# Altium integrated library Inductor - Power.IntLib: 264 symbols (part 2 of 5)
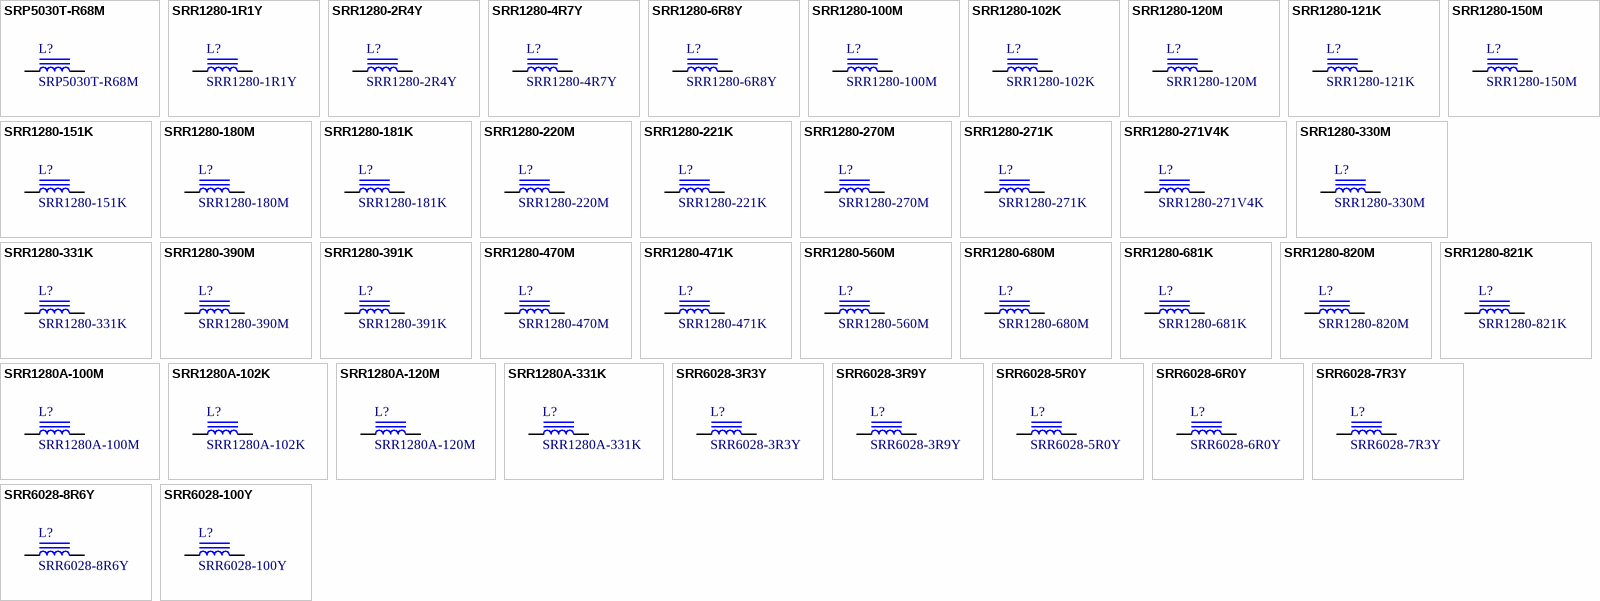
[diagram p7: symbols SRP5030T-R68M to SRR6028-100Y]

## SRR1280-391K
designator L?
FIXED IND 390UH 1A 680 MOHM SMD; Manufacturer: Bourns Inc.; Type: Wirewound; Material - Core: Ferrite; Tolerance: 10%; Current - Saturation: 1.4A; Shielding: Shielded; DC Resistance (DCR): 680 mOhm Max; Q @ Freq: 20 @ 796kHz; Frequency - Self Resonant: 2.7MHz; Value: 390uH; Part Number: SRR1280-391K; PartId: 16192; Supplier 1: Digi-Key; Supplier Part Number 1: SRR1280-391KLCT-ND; ComponentLink1Description: Datasheet; ComponentLink1URL: http://www.bourns.com/docs/Product-Datasheets/SRR1280.pdf; ComponentLink2Description: Digi-Key Listing; ComponentLink2URL: https://www.digikey.com/product-detail/en/bourns-inc/SRR1280-391K/SRR1280-391KLCT-ND/2127443; Price: 0.99; Device Package: Nonstandard; Series: SRR1280; Inductance: 390uH; Current Rating: 1A; Operating Temperature: -40C ~ 125C
footprint BOURNS SRR1280
pins: 1, 2

## SRR1280-470M
designator L?
FIXED IND 47UH 2.9A 80 MOHM SMD; Manufacturer: Bourns Inc.; Type: Wirewound; Material - Core: Ferrite; Tolerance: 20%; Current - Saturation: 2.8A; Shielding: Shielded; DC Resistance (DCR): 80 mOhm Max; Q @ Freq: 24 @ 2.52MHz; Frequency - Self Resonant: 7.5MHz; Value: 47uH; Part Number: SRR1280-470M; PartId: 15711; Supplier 1: Digi-Key; Supplier Part Number 1: SRR1280-470MTR-ND; ComponentLink1Description: Datasheet; ComponentLink1URL: http://www.bourns.com/docs/Product-Datasheets/SRR1280.pdf; ComponentLink2Description: Digi-Key Listing; ComponentLink2URL: https://www.digikey.com/product-detail/en/bourns-inc/SRR1280-470M/SRR1280-470MTR-ND/1970000; Price: 0.7737; Device Package: Nonstandard; Series: SRR1280; Inductance: 47uH; Current Rating: 2.9A; Operating Temperature: -40C ~ 125C
footprint BOURNS SRR1280
pins: 1, 2

## SRR1280-471K
designator L?
FIXED IND 470UH 900MA 880 MOHM; Manufacturer: Bourns Inc.; Type: Wirewound; Material - Core: Ferrite; Tolerance: 10%; Current - Saturation: 1.25A; Shielding: Shielded; DC Resistance (DCR): 880 mOhm Max; Q @ Freq: 20 @ 796kHz; Frequency - Self Resonant: 2.2MHz; Value: 470uH; Part Number: SRR1280-471K; PartId: 15720; Supplier 1: Digi-Key; Supplier Part Number 1: SRR1280-471KLTR-ND; ComponentLink1Description: Datasheet; ComponentLink1URL: http://www.bourns.com/docs/Product-Datasheets/SRR1280.pdf; ComponentLink2Description: Digi-Key Listing; ComponentLink2URL: https://www.digikey.com/product-detail/en/bourns-inc/SRR1280-471K/SRR1280-471KLTR-ND/1970012; Price: 0.7737; Device Package: Nonstandard; Series: SRR1280; Inductance: 470uH; Current Rating: 900mA; Operating Temperature: -40C ~ 125C
footprint BOURNS SRR1280
pins: 1, 2

## SRR1280-560M
designator L?
FIXED IND 56UH 2.6A 100 MOHM SMD; Manufacturer: Bourns Inc.; Type: Wirewound; Material - Core: Ferrite; Tolerance: 20%; Current - Saturation: 2.5A; Shielding: Shielded; DC Resistance (DCR): 100 mOhm Max; Q @ Freq: 24 @ 2.52MHz; Frequency - Self Resonant: 7MHz; Value: 56uH; Part Number: SRR1280-560M; PartId: 16189; Supplier 1: Digi-Key; Supplier Part Number 1: SRR1280-560MCT-ND; ComponentLink1Description: Datasheet; ComponentLink1URL: http://www.bourns.com/docs/Product-Datasheets/SRR1280.pdf; ComponentLink2Description: Digi-Key Listing; ComponentLink2URL: https://www.digikey.com/product-detail/en/bourns-inc/SRR1280-560M/SRR1280-560MCT-ND/2127447; Price: 0.99; Device Package: Nonstandard; Series: SRR1280; Inductance: 56uH; Current Rating: 2.6A; Operating Temperature: -40C ~ 125C
footprint BOURNS SRR1280
pins: 1, 2

## SRR1280-680M
designator L?
FIXED IND 68UH 2.4A 120 MOHM SMD; Manufacturer: Bourns Inc.; Type: Wirewound; Material - Core: Ferrite; Tolerance: 20%; Current - Saturation: 2.3A; Shielding: Shielded; DC Resistance (DCR): 120 mOhm Max; Q @ Freq: 20 @ 2.52MHz; Frequency - Self Resonant: 6.5MHz; Value: 68uH; Part Number: SRR1280-680M; PartId: 15716; Supplier 1: Digi-Key; Supplier Part Number 1: SRR1280-680MTR-ND; ComponentLink1Description: Datasheet; ComponentLink1URL: http://www.bourns.com/docs/Product-Datasheets/SRR1280.pdf; ComponentLink2Description: Digi-Key Listing; ComponentLink2URL: https://www.digikey.com/product-detail/en/bourns-inc/SRR1280-680M/SRR1280-680MTR-ND/1970002; Price: 0.7737; Device Package: Nonstandard; Series: SRR1280; Inductance: 68uH; Current Rating: 2.4A; Operating Temperature: -40C ~ 125C
footprint BOURNS SRR1280
pins: 1, 2

## SRR1280-681K
designator L?
FIXED IND 680UH 750MA 1.3 OHM; Manufacturer: Bourns Inc.; Type: Wirewound; Material - Core: Ferrite; Tolerance: 10%; Current - Saturation: 970mA; Shielding: Shielded; DC Resistance (DCR): 1.3 Ohm Max; Q @ Freq: 26 @ 796kHz; Frequency - Self Resonant: 1.7MHz; Value: 680uH; Part Number: SRR1280-681K; PartId: 15724; Supplier 1: Digi-Key; Supplier Part Number 1: SRR1280-681KLTR-ND; ComponentLink1Description: Datasheet; ComponentLink1URL: http://www.bourns.com/docs/Product-Datasheets/SRR1280.pdf; ComponentLink2Description: Digi-Key Listing; ComponentLink2URL: https://www.digikey.com/product-detail/en/bourns-inc/SRR1280-681K/SRR1280-681KLTR-ND/1970014; Price: 0.7737; Device Package: Nonstandard; Series: SRR1280; Inductance: 680uH; Current Rating: 750mA; Operating Temperature: -40C ~ 125C
footprint BOURNS SRR1280
pins: 1, 2

## SRR1280-820M
designator L?
FIXED IND 82UH 2.3A 130 MOHM SMD; Manufacturer: Bourns Inc.; Type: Wirewound; Material - Core: Ferrite; Tolerance: 20%; Current - Saturation: 2.2A; Shielding: Shielded; DC Resistance (DCR): 130 mOhm Max; Q @ Freq: 20 @ 796kHz; Frequency - Self Resonant: 5MHz; Value: 82uH; Part Number: SRR1280-820M; PartId: 15718; Supplier 1: Digi-Key; Supplier Part Number 1: SRR1280-820MTR-ND; ComponentLink1Description: Datasheet; ComponentLink1URL: http://www.bourns.com/docs/Product-Datasheets/SRR1280.pdf; ComponentLink2Description: Digi-Key Listing; ComponentLink2URL: https://www.digikey.com/product-detail/en/bourns-inc/SRR1280-820M/SRR1280-820MTR-ND/1970003; Price: 0.7737; Device Package: Nonstandard; Series: SRR1280; Inductance: 82uH; Current Rating: 2.3A; Operating Temperature: -40C ~ 125C
footprint BOURNS SRR1280
pins: 1, 2

## SRR1280-821K
designator L?
FIXED IND 820UH 700MA 1.5 OHM; Manufacturer: Bourns Inc.; Type: Wirewound; Material - Core: Ferrite; Tolerance: 10%; Current - Saturation: 940mA; Shielding: Shielded; DC Resistance (DCR): 1.5 Ohm Max; Q @ Freq: 20 @ 796kHz; Frequency - Self Resonant: 1.4MHz; Value: 820uH; Part Number: SRR1280-821K; PartId: 15723; Supplier 1: Digi-Key; Supplier Part Number 1: SRR1280-821KLTR-ND; ComponentLink1Description: Datasheet; ComponentLink1URL: http://www.bourns.com/docs/Product-Datasheets/SRR1280.pdf; ComponentLink2Description: Digi-Key Listing; ComponentLink2URL: https://www.digikey.com/product-detail/en/bourns-inc/SRR1280-821K/SRR1280-821KLTR-ND/1970015; Price: 0.7737; Device Package: Nonstandard; Series: SRR1280; Inductance: 820uH; Current Rating: 700mA; Operating Temperature: -40C ~ 125C
footprint BOURNS SRR1280
pins: 1, 2

## SRR1280A-100M
designator L?
FIXED IND 10UH 6A 19.5 MOHM SMD; Manufacturer: Bourns Inc.; Material - Core: Ferrite; Tolerance: 20%; Current - Saturation: 6.3A; Shielding: Shielded; DC Resistance (DCR): 19.5 mOhm Max; Q @ Freq: 24 @ 2.52MHz; Frequency - Self Resonant: 17MHz; Value: 10uH; Part Number: SRR1280A-100M; PartId: 15726; Supplier 1: Digi-Key; Supplier Part Number 1: SRR1280A-100MTR-ND; ComponentLink1Description: Datasheet; ComponentLink1URL: http://www.bourns.com/docs/Product-Datasheets/SRR1280A.pdf; ComponentLink2Description: Digi-Key Listing; ComponentLink2URL: https://www.digikey.com/product-detail/en/bourns-inc/SRR1280A-100M/SRR1280A-100MTR-ND/4340238; Price: 0.8985; Device Package: Nonstandard; Series: SRR1280A; Inductance: 10uH; Current Rating: 6A; Operating Temperature: -40C ~ 125C
footprint BOURNS SRR1280
pins: 1, 2

## SRR1280A-102K
designator L?
FIXED IND 1MH 680MA 1.7 OHM SMD; Manufacturer: Bourns Inc.; Material - Core: Ferrite; Tolerance: 10%; Current - Saturation: 800mA; Shielding: Shielded; DC Resistance (DCR): 1.7 Ohm Max; Q @ Freq: 40 @ 252kHz; Frequency - Self Resonant: 1.3MHz; Value: 1mH; Part Number: SRR1280A-102K; PartId: 15730; Supplier 1: Digi-Key; Supplier Part Number 1: SRR1280A-102KTR-ND; ComponentLink1Description: Datasheet; ComponentLink1URL: http://www.bourns.com/docs/Product-Datasheets/SRR1280A.pdf; ComponentLink2Description: Digi-Key Listing; ComponentLink2URL: https://www.digikey.com/product-detail/en/bourns-inc/SRR1280A-102K/SRR1280A-102KTR-ND/4340262; Price: 0.8985; Device Package: Nonstandard; Series: SRR1280A; Inductance: 1mH; Current Rating: 680mA; Operating Temperature: -40C ~ 125C
footprint BOURNS SRR1280
pins: 1, 2

## SRR1280A-120M
designator L?
FIXED IND 12UH 5.6A 28 MOHM SMD; Manufacturer: Bourns Inc.; Material - Core: Ferrite; Tolerance: 20%; Current - Saturation: 6A; Shielding: Shielded; DC Resistance (DCR): 28 mOhm Max; Q @ Freq: 26 @ 2.52MHz; Frequency - Self Resonant: 15MHz; Value: 12uH; Part Number: SRR1280A-120M; PartId: 15731; Supplier 1: Digi-Key; Supplier Part Number 1: SRR1280A-120MTR-ND; ComponentLink1Description: Datasheet; ComponentLink1URL: http://www.bourns.com/docs/Product-Datasheets/SRR1280A.pdf; ComponentLink2Description: Digi-Key Listing; ComponentLink2URL: https://www.digikey.com/product-detail/en/bourns-inc/SRR1280A-120M/SRR1280A-120MTR-ND/4340239; Price: 0.8985; Device Package: Nonstandard; Series: SRR1280A; Inductance: 12uH; Current Rating: 5.6A; Operating Temperature: -40C ~ 125C
footprint BOURNS SRR1280
pins: 1, 2

## SRR1280A-331K
designator L?
FIXED IND 330UH 1.1A 600 MOHM; Manufacturer: Bourns Inc.; Material - Core: Ferrite; Tolerance: 10%; Current - Saturation: 1.4A; Shielding: Shielded; DC Resistance (DCR): 600 mOhm Max; Q @ Freq: 18 @ 796kHz; Frequency - Self Resonant: 2.9MHz; Value: 330uH; Part Number: SRR1280A-331K; PartId: 15732; Supplier 1: Digi-Key; Supplier Part Number 1: SRR1280A-331KTR-ND; ComponentLink1Description: Datasheet; ComponentLink1URL: http://www.bourns.com/docs/Product-Datasheets/SRR1280A.pdf; ComponentLink2Description: Digi-Key Listing; ComponentLink2URL: https://www.digikey.com/product-detail/en/bourns-inc/SRR1280A-331K/SRR1280A-331KTR-ND/4340256; Price: 0.8985; Device Package: Nonstandard; Series: SRR1280A; Inductance: 330uH; Current Rating: 1.1A; Operating Temperature: -40C ~ 125C
footprint BOURNS SRR1280
pins: 1, 2

## SRR6028-3R3Y
designator L?
FIXED IND 3.3UH 2.5A 28 MOHM SMD; Manufacturer: Bourns Inc.; Type: Wirewound; Material - Core: Ferrite; Tolerance: 30%; Current - Saturation: 2.6A; Shielding: Shielded; DC Resistance (DCR): 28 mOhm Max; Q @ Freq: 10 @ 7.96MHz; Frequency - Self Resonant: 45MHz; Value: 3.3uH; Part Number: SRR6028-3R3Y; PartId: 27929; Supplier 1: Digi-Key; Supplier Part Number 1: SRR6028-3R3YCT-ND; ComponentLink1Description: Datasheet; ComponentLink1URL: http://www.bourns.com/docs/Product-Datasheets/SRR6028.pdf; ComponentLink2Description: Digi-Key Listing; ComponentLink2URL: https://www.digikey.com/product-detail/en/bourns-inc/SRR6028-3R3Y/SRR6028-3R3YCT-ND/2127561; Price: 0.68; Device Package: Nonstandard; Series: SRR6028; Inductance: 3.3uH; Current Rating: 2.5A; Operating Temperature: -40C ~ 125C
footprint BOURNS SRR6028
pins: 1, 2

## SRR6028-3R9Y
designator L?
FIXED IND 3.9UH 2.45A 32 MOHM; Manufacturer: Bourns Inc.; Type: Wirewound; Material - Core: Ferrite; Tolerance: 30%; Current - Saturation: 2.3A; Shielding: Shielded; DC Resistance (DCR): 32 mOhm Max; Q @ Freq: 9 @ 7.96MHz; Frequency - Self Resonant: 40MHz; Value: 3.9uH; Part Number: SRR6028-3R9Y; PartId: 27927; Supplier 1: Digi-Key; Supplier Part Number 1: SRR6028-3R9YCT-ND; ComponentLink1Description: Datasheet; ComponentLink1URL: http://www.bourns.com/docs/Product-Datasheets/SRR6028.pdf; ComponentLink2Description: Digi-Key Listing; ComponentLink2URL: https://www.digikey.com/product-detail/en/bourns-inc/SRR6028-3R9Y/SRR6028-3R9YCT-ND/2127562; Price: 0.68; Device Package: Nonstandard; Series: SRR6028; Inductance: 3.9uH; Current Rating: 2.45A; Operating Temperature: -40C ~ 125C
footprint BOURNS SRR6028
pins: 1, 2

## SRR6028-5R0Y
designator L?
FIXED IND 5UH 2.4A 36 MOHM SMD; Manufacturer: Bourns Inc.; Type: Wirewound; Material - Core: Ferrite; Tolerance: 30%; Current - Saturation: 2.1A; Shielding: Shielded; DC Resistance (DCR): 36 mOhm Max; Q @ Freq: 7.5 @ 7.96MHz; Frequency - Self Resonant: 38MHz; Value: 5uH; Part Number: SRR6028-5R0Y; PartId: 27938; Supplier 1: Digi-Key; Supplier Part Number 1: SRR6028-5R0YCT-ND; ComponentLink1Description: Datasheet; ComponentLink1URL: http://www.bourns.com/docs/Product-Datasheets/SRR6028.pdf; ComponentLink2Description: Digi-Key Listing; ComponentLink2URL: https://www.digikey.com/product-detail/en/bourns-inc/SRR6028-5R0Y/SRR6028-5R0YCT-ND/2127565; Price: 0.68; Device Package: Nonstandard; Series: SRR6028; Inductance: 5uH; Current Rating: 2.4A; Operating Temperature: -40C ~ 125C
footprint BOURNS SRR6028
pins: 1, 2

## SRR6028-6R0Y
designator L?
FIXED IND 6UH 2.3A 40 MOHM SMD; Manufacturer: Bourns Inc.; Type: Wirewound; Material - Core: Ferrite; Tolerance: 30%; Current - Saturation: 2A; Shielding: Shielded; DC Resistance (DCR): 40 mOhm Max; Q @ Freq: 9 @ 7.96MHz; Frequency - Self Resonant: 35MHz; Value: 6uH; Part Number: SRR6028-6R0Y; PartId: 27934; Supplier 1: Digi-Key; Supplier Part Number 1: SRR6028-6R0YCT-ND; ComponentLink1Description: Datasheet; ComponentLink1URL: http://www.bourns.com/docs/Product-Datasheets/SRR6028.pdf; ComponentLink2Description: Digi-Key Listing; ComponentLink2URL: https://www.digikey.com/product-detail/en/bourns-inc/SRR6028-6R0Y/SRR6028-6R0YCT-ND/2127567; Price: 0.68; Device Package: Nonstandard; Series: SRR6028; Inductance: 6uH; Current Rating: 2.3A; Operating Temperature: -40C ~ 125C
footprint BOURNS SRR6028
pins: 1, 2

## SRR6028-7R3Y
designator L?
FIXED IND 7.3UH 2.2A 52 MOHM SMD; Manufacturer: Bourns Inc.; Type: Wirewound; Material - Core: Ferrite; Tolerance: 30%; Current - Saturation: 1.85A; Shielding: Shielded; DC Resistance (DCR): 52 mOhm Max; Q @ Freq: 6 @ 7.96MHz; Frequency - Self Resonant: 30MHz; Value: 7.3uH; Part Number: SRR6028-7R3Y; PartId: 27930; Supplier 1: Digi-Key; Supplier Part Number 1: SRR6028-7R3YCT-ND; ComponentLink1Description: Datasheet; ComponentLink1URL: http://www.bourns.com/docs/Product-Datasheets/SRR6028.pdf; ComponentLink2Description: Digi-Key Listing; ComponentLink2URL: https://www.digikey.com/product-detail/en/bourns-inc/SRR6028-7R3Y/SRR6028-7R3YCT-ND/2127568; Price: 0.68; Device Package: Nonstandard; Series: SRR6028; Inductance: 7.3uH; Current Rating: 2.2A; Operating Temperature: -40C ~ 125C
footprint BOURNS SRR6028
pins: 1, 2

## SRR6028-8R6Y
designator L?
FIXED IND 8.6UH 2.1A 56 MOHM SMD; Manufacturer: Bourns Inc.; Type: Wirewound; Material - Core: Ferrite; Tolerance: 30%; Current - Saturation: 1.82A; Shielding: Shielded; DC Resistance (DCR): 56 mOhm Max; Q @ Freq: 8 @ 2.52MHz; Frequency - Self Resonant: 28MHz; Value: 8.6uH; Part Number: SRR6028-8R6Y; PartId: 27926; Supplier 1: Digi-Key; Supplier Part Number 1: SRR6028-8R6YCT-ND; ComponentLink1Description: Datasheet; ComponentLink1URL: http://www.bourns.com/docs/Product-Datasheets/SRR6028.pdf; ComponentLink2Description: Digi-Key Listing; ComponentLink2URL: https://www.digikey.com/product-detail/en/bourns-inc/SRR6028-8R6Y/SRR6028-8R6YCT-ND/2127570; Price: 0.68; Device Package: Nonstandard; Series: SRR6028; Inductance: 8.6uH; Current Rating: 2.1A; Operating Temperature: -40C ~ 125C
footprint BOURNS SRR6028
pins: 1, 2

## SRR6028-100Y
designator L?
FIXED IND 10UH 2A 65 MOHM SMD; Manufacturer: Bourns Inc.; Type: Wirewound; Material - Core: Ferrite; Tolerance: 30%; Current - Saturation: 1.7A; Shielding: Shielded; DC Resistance (DCR): 65 mOhm Max; Q @ Freq: 11 @ 2.52MHz; Frequency - Self Resonant: 25MHz; Value: 10uH; Part Number: SRR6028-100Y; PartId: 27923; Supplier 1: Digi-Key; Supplier Part Number 1: SRR6028-100YCT-ND; ComponentLink1Description: Datasheet; ComponentLink1URL: http://www.bourns.com/docs/Product-Datasheets/SRR6028.pdf; ComponentLink2Description: Digi-Key Listing; ComponentLink2URL: https://www.digikey.com/product-detail/en/bourns-inc/SRR6028-100Y/SRR6028-100YCT-ND/2127552; Price: 0.68; Device Package: Nonstandard; Series: SRR6028; Inductance: 10uH; Current Rating: 2A; Operating Temperature: -40C ~ 125C
footprint BOURNS SRR6028
pins: 1, 2

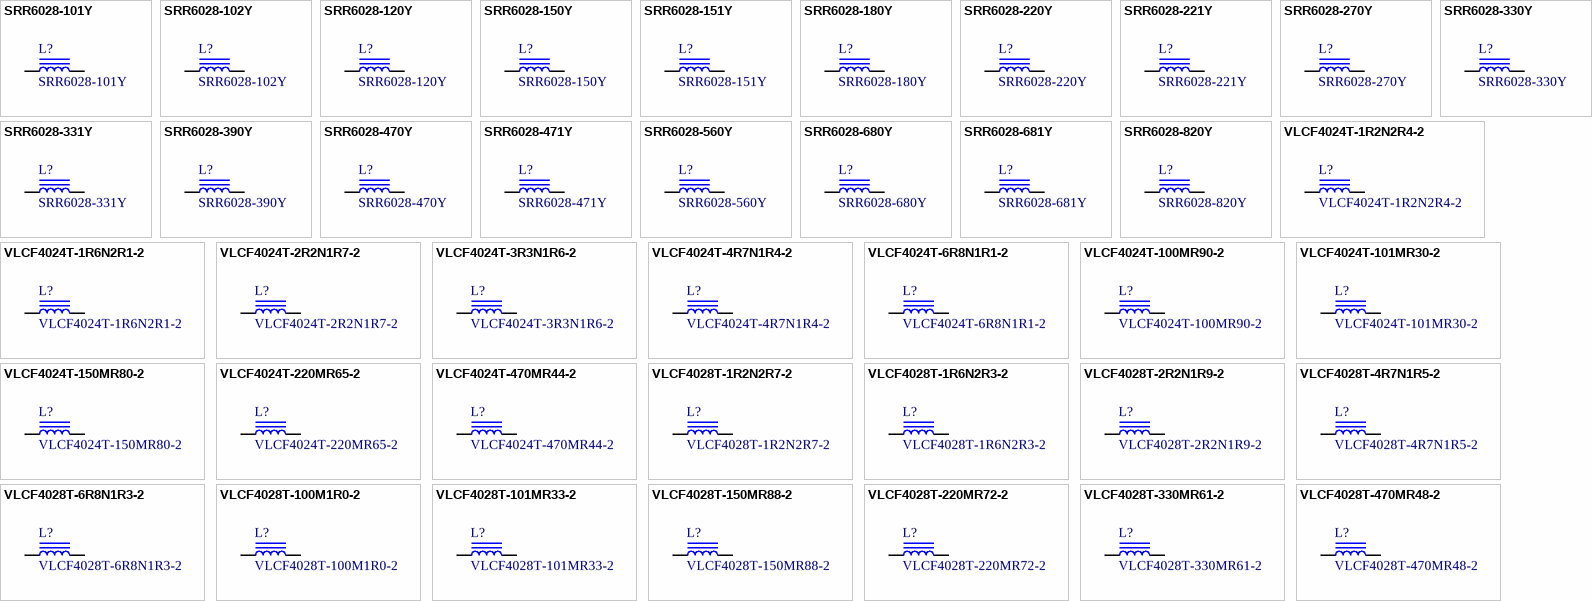
[diagram p2: symbols SRR6028-101Y to VLCF4028T-470MR48-2]

## SRR6028-101Y
designator L?
FIXED IND 100UH 580MA 500 MOHM; Manufacturer: Bourns Inc.; Type: Wirewound; Material - Core: Ferrite; Tolerance: 30%; Current - Saturation: 550mA; Shielding: Shielded; DC Resistance (DCR): 500 mOhm Max; Q @ Freq: 8.5 @ 796kHz; Frequency - Self Resonant: 14MHz; Value: 100uH; Part Number: SRR6028-101Y; PartId: 27935; Supplier 1: Digi-Key; Supplier Part Number 1: SRR6028-101YCT-ND; ComponentLink1Description: Datasheet; ComponentLink1URL: http://www.bourns.com/docs/Product-Datasheets/SRR6028.pdf; ComponentLink2Description: Digi-Key Listing; ComponentLink2URL: https://www.digikey.com/product-detail/en/bourns-inc/SRR6028-101Y/SRR6028-101YCT-ND/2127553; Price: 0.68; Device Package: Nonstandard; Series: SRR6028; Inductance: 100uH; Current Rating: 580mA; Operating Temperature: -40C ~ 125C
footprint BOURNS SRR6028
pins: 1, 2

## SRR6028-102Y
designator L?
FIXED IND 1MH 150MA 4.5 OHM SMD; Manufacturer: Bourns Inc.; Type: Wirewound; Material - Core: Ferrite; Tolerance: 30%; Current - Saturation: 170mA; Shielding: Shielded; DC Resistance (DCR): 4.5 Ohm Max; Q @ Freq: 32 @ 252kHz; Frequency - Self Resonant: 7MHz; Value: 1mH; Part Number: SRR6028-102Y; PartId: 27917; Supplier 1: Digi-Key; Supplier Part Number 1: SRR6028-102YCT-ND; ComponentLink1Description: Datasheet; ComponentLink1URL: http://www.bourns.com/docs/Product-Datasheets/SRR6028.pdf; ComponentLink2Description: Digi-Key Listing; ComponentLink2URL: https://www.digikey.com/product-detail/en/bourns-inc/SRR6028-102Y/SRR6028-102YCT-ND/3767895; Price: 0.68; Device Package: Nonstandard; Series: SRR6028; Inductance: 1mH; Current Rating: 150mA; Operating Temperature: -40C ~ 125C
footprint BOURNS SRR6028
pins: 1, 2

## SRR6028-120Y
designator L?
FIXED IND 12UH 1.9A 70 MOHM SMD; Manufacturer: Bourns Inc.; Type: Wirewound; Material - Core: Ferrite; Tolerance: 30%; Current - Saturation: 1.5A; Shielding: Shielded; DC Resistance (DCR): 70 mOhm Max; Q @ Freq: 10 @ 2.52MHz; Frequency - Self Resonant: 24MHz; Value: 12uH; Part Number: SRR6028-120Y; PartId: 27936; Supplier 1: Digi-Key; Supplier Part Number 1: SRR6028-120YCT-ND; ComponentLink1Description: Datasheet; ComponentLink1URL: http://www.bourns.com/docs/Product-Datasheets/SRR6028.pdf; ComponentLink2Description: Digi-Key Listing; ComponentLink2URL: https://www.digikey.com/product-detail/en/bourns-inc/SRR6028-120Y/SRR6028-120YCT-ND/2127554; Price: 0.68; Device Package: Nonstandard; Series: SRR6028; Inductance: 12uH; Current Rating: 1.9A; Operating Temperature: -40C ~ 125C
footprint BOURNS SRR6028
pins: 1, 2

## SRR6028-150Y
designator L?
FIXED IND 15UH 1.7A 78 MOHM SMD; Manufacturer: Bourns Inc.; Type: Wirewound; Material - Core: Ferrite; Tolerance: 30%; Current - Saturation: 1.3A; Shielding: Shielded; DC Resistance (DCR): 78 mOhm Max; Q @ Freq: 9.5 @ 2.52MHz; Frequency - Self Resonant: 22MHz; Value: 15uH; Part Number: SRR6028-150Y; PartId: 27925; Supplier 1: Digi-Key; Supplier Part Number 1: SRR6028-150YCT-ND; ComponentLink1Description: Datasheet; ComponentLink1URL: http://www.bourns.com/docs/Product-Datasheets/SRR6028.pdf; ComponentLink2Description: Digi-Key Listing; ComponentLink2URL: https://www.digikey.com/product-detail/en/bourns-inc/SRR6028-150Y/SRR6028-150YCT-ND/2127555; Price: 0.68; Device Package: Nonstandard; Series: SRR6028; Inductance: 15uH; Current Rating: 1.7A; Operating Temperature: -40C ~ 125C
footprint BOURNS SRR6028
pins: 1, 2

## SRR6028-151Y
designator L?
FIXED IND 150UH 500MA 680 MOHM; Manufacturer: Bourns Inc.; Type: Wirewound; Material - Core: Ferrite; Tolerance: 30%; Current - Saturation: 420mA; Shielding: Shielded; DC Resistance (DCR): 680 mOhm Max; Q @ Freq: 12 @ 796kHz; Frequency - Self Resonant: 13MHz; Value: 150uH; Part Number: SRR6028-151Y; PartId: 27940; Supplier 1: Digi-Key; Supplier Part Number 1: SRR6028-151YCT-ND; ComponentLink1Description: Datasheet; ComponentLink1URL: http://www.bourns.com/docs/Product-Datasheets/SRR6028.pdf; ComponentLink2Description: Digi-Key Listing; ComponentLink2URL: https://www.digikey.com/product-detail/en/bourns-inc/SRR6028-151Y/SRR6028-151YCT-ND/5355772; Price: 0.68; Device Package: Nonstandard; Series: SRR6028; Inductance: 150uH; Current Rating: 500mA; Operating Temperature: -40C ~ 125C
footprint BOURNS SRR6028
pins: 1, 2

## SRR6028-180Y
designator L?
FIXED IND 18UH 1.5A 85 MOHM SMD; Manufacturer: Bourns Inc.; Type: Wirewound; Material - Core: Ferrite; Tolerance: 30%; Current - Saturation: 1.1A; Shielding: Shielded; DC Resistance (DCR): 85 mOhm Max; Q @ Freq: 9 @ 2.52MHz; Frequency - Self Resonant: 21MHz; Value: 18uH; Part Number: SRR6028-180Y; PartId: 27932; Supplier 1: Digi-Key; Supplier Part Number 1: SRR6028-180YCT-ND; ComponentLink1Description: Datasheet; ComponentLink1URL: http://www.bourns.com/docs/Product-Datasheets/SRR6028.pdf; ComponentLink2Description: Digi-Key Listing; ComponentLink2URL: https://www.digikey.com/product-detail/en/bourns-inc/SRR6028-180Y/SRR6028-180YCT-ND/2127556; Price: 0.68; Device Package: Nonstandard; Series: SRR6028; Inductance: 18uH; Current Rating: 1.5A; Operating Temperature: -40C ~ 125C
footprint BOURNS SRR6028
pins: 1, 2

## SRR6028-220Y
designator L?
FIXED IND 22UH 1.4A 115 MOHM SMD; Manufacturer: Bourns Inc.; Type: Wirewound; Material - Core: Ferrite; Tolerance: 30%; Current - Saturation: 1.08A; Shielding: Shielded; DC Resistance (DCR): 115 mOhm Max; Q @ Freq: 8.5 @ 2.52MHz; Frequency - Self Resonant: 20MHz; Value: 22uH; Part Number: SRR6028-220Y; PartId: 27919; Supplier 1: Digi-Key; Supplier Part Number 1: SRR6028-220YCT-ND; ComponentLink1Description: Datasheet; ComponentLink1URL: http://www.bourns.com/docs/Product-Datasheets/SRR6028.pdf; ComponentLink2Description: Digi-Key Listing; ComponentLink2URL: https://www.digikey.com/product-detail/en/bourns-inc/SRR6028-220Y/SRR6028-220YCT-ND/2127557; Price: 0.68; Device Package: Nonstandard; Series: SRR6028; Inductance: 22uH; Current Rating: 1.4A; Operating Temperature: -40C ~ 125C
footprint BOURNS SRR6028
pins: 1, 2

## SRR6028-221Y
designator L?
FIXED IND 220UH 450MA 820 MOHM; Manufacturer: Bourns Inc.; Type: Wirewound; Material - Core: Ferrite; Tolerance: 30%; Current - Saturation: 360mA; Shielding: Shielded; DC Resistance (DCR): 820 mOhm Max; Q @ Freq: 15 @ 796kHz; Frequency - Self Resonant: 12MHz; Value: 220uH; Part Number: SRR6028-221Y; PartId: 27937; Supplier 1: Digi-Key; Supplier Part Number 1: SRR6028-221YCT-ND; ComponentLink1Description: Datasheet; ComponentLink1URL: http://www.bourns.com/docs/Product-Datasheets/SRR6028.pdf; ComponentLink2Description: Digi-Key Listing; ComponentLink2URL: https://www.digikey.com/product-detail/en/bourns-inc/SRR6028-221Y/SRR6028-221YCT-ND/3767886; Price: 0.68; Device Package: Nonstandard; Series: SRR6028; Inductance: 220uH; Current Rating: 450mA; Operating Temperature: -40C ~ 125C
footprint BOURNS SRR6028
pins: 1, 2

## SRR6028-270Y
designator L?
FIXED IND 27UH 1.2A 130 MOHM SMD; Manufacturer: Bourns Inc.; Type: Wirewound; Material - Core: Ferrite; Tolerance: 30%; Current - Saturation: 1A; Shielding: Shielded; DC Resistance (DCR): 130 mOhm Max; Q @ Freq: 9 @ 2.52MHz; Frequency - Self Resonant: 19MHz; Value: 27uH; Part Number: SRR6028-270Y; PartId: 27922; Supplier 1: Digi-Key; Supplier Part Number 1: SRR6028-270YCT-ND; ComponentLink1Description: Datasheet; ComponentLink1URL: http://www.bourns.com/docs/Product-Datasheets/SRR6028.pdf; ComponentLink2Description: Digi-Key Listing; ComponentLink2URL: https://www.digikey.com/product-detail/en/bourns-inc/SRR6028-270Y/SRR6028-270YCT-ND/2127558; Price: 0.68; Device Package: Nonstandard; Series: SRR6028; Inductance: 27uH; Current Rating: 1.2A; Operating Temperature: -40C ~ 125C
footprint BOURNS SRR6028
pins: 1, 2

## SRR6028-330Y
designator L?
FIXED IND 33UH 1.15A 155 MOHM; Manufacturer: Bourns Inc.; Type: Wirewound; Material - Core: Ferrite; Tolerance: 30%; Current - Saturation: 920mA; Shielding: Shielded; DC Resistance (DCR): 155 mOhm Max; Q @ Freq: 10 @ 2.52MHz; Frequency - Self Resonant: 18MHz; Value: 33uH; Part Number: SRR6028-330Y; PartId: 27918; Supplier 1: Digi-Key; Supplier Part Number 1: SRR6028-330YCT-ND; ComponentLink1Description: Datasheet; ComponentLink1URL: http://www.bourns.com/docs/Product-Datasheets/SRR6028.pdf; ComponentLink2Description: Digi-Key Listing; ComponentLink2URL: https://www.digikey.com/product-detail/en/bourns-inc/SRR6028-330Y/SRR6028-330YCT-ND/2127559; Price: 0.68; Device Package: Nonstandard; Series: SRR6028; Inductance: 33uH; Current Rating: 1.15A; Operating Temperature: -40C ~ 125C
footprint BOURNS SRR6028
pins: 1, 2

## SRR6028-331Y
designator L?
FIXED IND 330UH 370MA 1.4 OHM; Manufacturer: Bourns Inc.; Type: Wirewound; Material - Core: Ferrite; Tolerance: 30%; Current - Saturation: 270mA; Shielding: Shielded; DC Resistance (DCR): 1.4 Ohm Max; Q @ Freq: 11 @ 796kHz; Frequency - Self Resonant: 10MHz; Value: 330uH; Part Number: SRR6028-331Y; PartId: 27921; Supplier 1: Digi-Key; Supplier Part Number 1: SRR6028-331YCT-ND; ComponentLink1Description: Datasheet; ComponentLink1URL: http://www.bourns.com/docs/Product-Datasheets/SRR6028.pdf; ComponentLink2Description: Digi-Key Listing; ComponentLink2URL: https://www.digikey.com/product-detail/en/bourns-inc/SRR6028-331Y/SRR6028-331YCT-ND/3767853; Price: 0.68; Device Package: Nonstandard; Series: SRR6028; Inductance: 330uH; Current Rating: 370mA; Operating Temperature: -40C ~ 125C
footprint BOURNS SRR6028
pins: 1, 2

## SRR6028-390Y
designator L?
FIXED IND 39UH 1A 195 MOHM SMD; Manufacturer: Bourns Inc.; Type: Wirewound; Material - Core: Ferrite; Tolerance: 30%; Current - Saturation: 750mA; Shielding: Shielded; DC Resistance (DCR): 195 mOhm Max; Q @ Freq: 10 @ 2.52MHz; Frequency - Self Resonant: 17MHz; Value: 39uH; Part Number: SRR6028-390Y; PartId: 27928; Supplier 1: Digi-Key; Supplier Part Number 1: SRR6028-390YCT-ND; ComponentLink1Description: Datasheet; ComponentLink1URL: http://www.bourns.com/docs/Product-Datasheets/SRR6028.pdf; ComponentLink2Description: Digi-Key Listing; ComponentLink2URL: https://www.digikey.com/product-detail/en/bourns-inc/SRR6028-390Y/SRR6028-390YCT-ND/2127560; Price: 0.68; Device Package: Nonstandard; Series: SRR6028; Inductance: 39uH; Current Rating: 1A; Operating Temperature: -40C ~ 125C
footprint BOURNS SRR6028
pins: 1, 2

## SRR6028-470Y
designator L?
FIXED IND 47UH 920MA 235 MOHM; Manufacturer: Bourns Inc.; Type: Wirewound; Material - Core: Ferrite; Tolerance: 30%; Current - Saturation: 720mA; Shielding: Shielded; DC Resistance (DCR): 235 mOhm Max; Q @ Freq: 10 @ 2.52MHz; Frequency - Self Resonant: 16MHz; Value: 47uH; Part Number: SRR6028-470Y; PartId: 27920; Supplier 1: Digi-Key; Supplier Part Number 1: SRR6028-470YCT-ND; ComponentLink1Description: Datasheet; ComponentLink1URL: http://www.bourns.com/docs/Product-Datasheets/SRR6028.pdf; ComponentLink2Description: Digi-Key Listing; ComponentLink2URL: https://www.digikey.com/product-detail/en/bourns-inc/SRR6028-470Y/SRR6028-470YCT-ND/2127563; Price: 0.68; Device Package: Nonstandard; Series: SRR6028; Inductance: 47uH; Current Rating: 920mA; Operating Temperature: -40C ~ 125C
footprint BOURNS SRR6028
pins: 1, 2

## SRR6028-471Y
designator L?
FIXED IND 470UH 270MA 2.1 OHM; Manufacturer: Bourns Inc.; Type: Wirewound; Material - Core: Ferrite; Tolerance: 30%; Current - Saturation: 220mA; Shielding: Shielded; DC Resistance (DCR): 2.1 Ohm Max; Q @ Freq: 11 @ 796kHz; Frequency - Self Resonant: 9MHz; Value: 470uH; Part Number: SRR6028-471Y; PartId: 27924; Supplier 1: Digi-Key; Supplier Part Number 1: SRR6028-471YCT-ND; ComponentLink1Description: Datasheet; ComponentLink1URL: http://www.bourns.com/docs/Product-Datasheets/SRR6028.pdf; ComponentLink2Description: Digi-Key Listing; ComponentLink2URL: https://www.digikey.com/product-detail/en/bourns-inc/SRR6028-471Y/SRR6028-471YCT-ND/3986766; Price: 0.68; Device Package: Nonstandard; Series: SRR6028; Inductance: 470uH; Current Rating: 270mA; Operating Temperature: -40C ~ 125C
footprint BOURNS SRR6028
pins: 1, 2

## SRR6028-560Y
designator L?
FIXED IND 56UH 850MA 260 MOHM; Manufacturer: Bourns Inc.; Type: Wirewound; Material - Core: Ferrite; Tolerance: 30%; Current - Saturation: 650mA; Shielding: Shielded; DC Resistance (DCR): 260 mOhm Max; Q @ Freq: 10 @ 796kHz; Frequency - Self Resonant: 15MHz; Value: 56uH; Part Number: SRR6028-560Y; PartId: 27931; Supplier 1: Digi-Key; Supplier Part Number 1: SRR6028-560YCT-ND; ComponentLink1Description: Datasheet; ComponentLink1URL: http://www.bourns.com/docs/Product-Datasheets/SRR6028.pdf; ComponentLink2Description: Digi-Key Listing; ComponentLink2URL: https://www.digikey.com/product-detail/en/bourns-inc/SRR6028-560Y/SRR6028-560YCT-ND/2127564; Price: 0.68; Device Package: Nonstandard; Series: SRR6028; Inductance: 56uH; Current Rating: 850mA; Operating Temperature: -40C ~ 125C
footprint BOURNS SRR6028
pins: 1, 2

## SRR6028-680Y
designator L?
FIXED IND 68UH 800MA 300 MOHM; Manufacturer: Bourns Inc.; Type: Wirewound; Material - Core: Ferrite; Tolerance: 30%; Current - Saturation: 600mA; Shielding: Shielded; DC Resistance (DCR): 300 mOhm Max; Q @ Freq: 11 @ 796kHz; Frequency - Self Resonant: 15MHz; Value: 68uH; Part Number: SRR6028-680Y; PartId: 27916; Supplier 1: Digi-Key; Supplier Part Number 1: SRR6028-680YCT-ND; ComponentLink1Description: Datasheet; ComponentLink1URL: http://www.bourns.com/docs/Product-Datasheets/SRR6028.pdf; ComponentLink2Description: Digi-Key Listing; ComponentLink2URL: https://www.digikey.com/product-detail/en/bourns-inc/SRR6028-680Y/SRR6028-680YCT-ND/2127566; Price: 0.68; Device Package: Nonstandard; Series: SRR6028; Inductance: 68uH; Current Rating: 800mA; Operating Temperature: -40C ~ 125C
footprint BOURNS SRR6028
pins: 1, 2

## SRR6028-681Y
designator L?
FIXED IND 680UH 220MA 3.1 OHM; Manufacturer: Bourns Inc.; Type: Wirewound; Material - Core: Ferrite; Tolerance: 30%; Current - Saturation: 200mA; Shielding: Shielded; DC Resistance (DCR): 3.1 Ohm Max; Q @ Freq: 13 @ 796kHz; Frequency - Self Resonant: 8MHz; Value: 680uH; Part Number: SRR6028-681Y; PartId: 27933; Supplier 1: Digi-Key; Supplier Part Number 1: SRR6028-681YCT-ND; ComponentLink1Description: Datasheet; ComponentLink1URL: http://www.bourns.com/docs/Product-Datasheets/SRR6028.pdf; ComponentLink2Description: Digi-Key Listing; ComponentLink2URL: https://www.digikey.com/product-detail/en/bourns-inc/SRR6028-681Y/SRR6028-681YCT-ND/3767900; Price: 0.68; Device Package: Nonstandard; Series: SRR6028; Inductance: 680uH; Current Rating: 220mA; Operating Temperature: -40C ~ 125C
footprint BOURNS SRR6028
pins: 1, 2

## SRR6028-820Y
designator L?
FIXED IND 82UH 700MA 400 MOHM; Manufacturer: Bourns Inc.; Type: Wirewound; Material - Core: Ferrite; Tolerance: 30%; Current - Saturation: 560mA; Shielding: Shielded; DC Resistance (DCR): 400 mOhm Max; Q @ Freq: 9 @ 796kHz; Frequency - Self Resonant: 14MHz; Value: 82uH; Part Number: SRR6028-820Y; PartId: 27939; Supplier 1: Digi-Key; Supplier Part Number 1: SRR6028-820YCT-ND; ComponentLink1Description: Datasheet; ComponentLink1URL: http://www.bourns.com/docs/Product-Datasheets/SRR6028.pdf; ComponentLink2Description: Digi-Key Listing; ComponentLink2URL: https://www.digikey.com/product-detail/en/bourns-inc/SRR6028-820Y/SRR6028-820YCT-ND/2127569; Price: 0.68; Device Package: Nonstandard; Series: SRR6028; Inductance: 82uH; Current Rating: 700mA; Operating Temperature: -40C ~ 125C
footprint BOURNS SRR6028
pins: 1, 2

## VLCF4024T-1R2N2R4-2
designator L?
FIXED IND 1.2UH 2.46A 32 MOHM; Manufacturer: TDK Corporation; Type: Wirewound; Material - Core: Ferrite; Tolerance: 30%; Shielding: Shielded; DC Resistance (DCR): 32 mOhm Max; Value: 1.2uH; Part Number: VLCF4024T-1R2N2R4-2; PartId: 16425; Supplier 1: Digi-Key; Supplier Part Number 1: 445-8730-2-ND; ComponentLink1Description: Datasheet; ComponentLink1URL: https://product.tdk.com/info/en/catalog/datasheets/inductor_commercial_power_vlcf4024-2_en.pdf; ComponentLink2Description: Digi-Key Listing; ComponentLink2URL: https://www.digikey.com/product-detail/en/tdk-corporation/VLCF4024T-1R2N2R4-2/445-8730-2-ND/3083275; Price: 0.441; Device Package: Nonstandard; Series: VLCF; Inductance: 1.2uH; Current Rating: 2.46A; Current - Saturation: 2.46A; Operating Temperature: -40C ~ 105C
footprint TDK VLCF4024-2
pins: 1, 2

## VLCF4024T-1R6N2R1-2
designator L?
FIXED IND 1.6UH 2.1A 39 MOHM SMD; Manufacturer: TDK Corporation; Type: Wirewound; Material - Core: Ferrite; Tolerance: 30%; Shielding: Shielded; DC Resistance (DCR): 39 mOhm Max; Value: 1.6uH; Part Number: VLCF4024T-1R6N2R1-2; PartId: 16434; Supplier 1: Digi-Key; Supplier Part Number 1: 445-8731-2-ND; ComponentLink1Description: Datasheet; ComponentLink1URL: https://product.tdk.com/info/en/catalog/datasheets/inductor_commercial_power_vlcf4024-2_en.pdf; ComponentLink2Description: Digi-Key Listing; ComponentLink2URL: https://www.digikey.com/product-detail/en/tdk-corporation/VLCF4024T-1R6N2R1-2/445-8731-2-ND/3083276; Price: 0.441; Device Package: Nonstandard; Series: VLCF; Inductance: 1.6uH; Current Rating: 2.1A; Current - Saturation: 2.1A; Operating Temperature: -40C ~ 105C
footprint TDK VLCF4024-2
pins: 1, 2

## VLCF4024T-2R2N1R7-2
designator L?
FIXED IND 2.2UH 1.76A 43 MOHM; Manufacturer: TDK Corporation; Type: Wirewound; Material - Core: Ferrite; Tolerance: 30%; Shielding: Shielded; DC Resistance (DCR): 43 mOhm Max; Value: 2.2uH; Part Number: VLCF4024T-2R2N1R7-2; PartId: 16426; Supplier 1: Digi-Key; Supplier Part Number 1: 445-8733-2-ND; ComponentLink1Description: Datasheet; ComponentLink1URL: https://product.tdk.com/info/en/catalog/datasheets/inductor_commercial_power_vlcf4024-2_en.pdf; ComponentLink2Description: Digi-Key Listing; ComponentLink2URL: https://www.digikey.com/product-detail/en/tdk-corporation/VLCF4024T-2R2N1R7-2/445-8733-2-ND/3083277; Price: 0.441; Device Package: Nonstandard; Series: VLCF; Inductance: 2.2uH; Current Rating: 1.76A; Current - Saturation: 1.76A; Operating Temperature: -40C ~ 105C
footprint TDK VLCF4024-2
pins: 1, 2

## VLCF4024T-3R3N1R6-2
designator L?
FIXED IND 3.3UH 1.6A 68 MOHM SMD; Manufacturer: TDK Corporation; Type: Wirewound; Material - Core: Ferrite; Tolerance: 30%; Shielding: Shielded; DC Resistance (DCR): 68 mOhm Max; Value: 3.3uH; Part Number: VLCF4024T-3R3N1R6-2; PartId: 16431; Supplier 1: Digi-Key; Supplier Part Number 1: 445-8735-2-ND; ComponentLink1Description: Datasheet; ComponentLink1URL: https://product.tdk.com/info/en/catalog/datasheets/inductor_commercial_power_vlcf4024-2_en.pdf; ComponentLink2Description: Digi-Key Listing; ComponentLink2URL: https://www.digikey.com/product-detail/en/tdk-corporation/VLCF4024T-3R3N1R6-2/445-8735-2-ND/3083278; Price: 0.441; Device Package: Nonstandard; Series: VLCF; Inductance: 3.3uH; Current Rating: 1.6A; Current - Saturation: 1.6A; Operating Temperature: -40C ~ 105C
footprint TDK VLCF4024-2
pins: 1, 2

## VLCF4024T-4R7N1R4-2
designator L?
FIXED IND 4.7UH 1.43A 87 MOHM; Manufacturer: TDK Corporation; Type: Wirewound; Material - Core: Ferrite; Tolerance: 30%; Shielding: Shielded; DC Resistance (DCR): 87 mOhm Max; Value: 4.7uH; Part Number: VLCF4024T-4R7N1R4-2; PartId: 16432; Supplier 1: Digi-Key; Supplier Part Number 1: 445-8737-2-ND; ComponentLink1Description: Datasheet; ComponentLink1URL: https://product.tdk.com/info/en/catalog/datasheets/inductor_commercial_power_vlcf4024-2_en.pdf; ComponentLink2Description: Digi-Key Listing; ComponentLink2URL: https://www.digikey.com/product-detail/en/tdk-corporation/VLCF4024T-4R7N1R4-2/445-8737-2-ND/3083279; Price: 0.441; Device Package: Nonstandard; Series: VLCF; Inductance: 4.7uH; Current Rating: 1.43A; Current - Saturation: 1.43A; Operating Temperature: -40C ~ 105C
footprint TDK VLCF4024-2
pins: 1, 2

## VLCF4024T-6R8N1R1-2
designator L?
FIXED IND 6.8UH 1.15A 116 MOHM; Manufacturer: TDK Corporation; Type: Wirewound; Material - Core: Ferrite; Tolerance: 30%; Shielding: Shielded; DC Resistance (DCR): 116 mOhm Max; Value: 6.8uH; Part Number: VLCF4024T-6R8N1R1-2; PartId: 16433; Supplier 1: Digi-Key; Supplier Part Number 1: 445-8738-2-ND; ComponentLink1Description: Datasheet; ComponentLink1URL: https://product.tdk.com/info/en/catalog/datasheets/inductor_commercial_power_vlcf4024-2_en.pdf; ComponentLink2Description: Digi-Key Listing; ComponentLink2URL: https://www.digikey.com/product-detail/en/tdk-corporation/VLCF4024T-6R8N1R1-2/445-8738-2-ND/3083280; Price: 0.441; Device Package: Nonstandard; Series: VLCF; Inductance: 6.8uH; Current Rating: 1.15A; Current - Saturation: 1.15A; Operating Temperature: -40C ~ 105C
footprint TDK VLCF4024-2
pins: 1, 2

## VLCF4024T-100MR90-2
designator L?
FIXED IND 10UH 900MA 136 MOHM; Manufacturer: TDK Corporation; Type: Wirewound; Material - Core: Ferrite; Tolerance: 20%; Shielding: Shielded; DC Resistance (DCR): 136 mOhm Max; Value: 10uH; Part Number: VLCF4024T-100MR90-2; PartId: 16429; Supplier 1: Digi-Key; Supplier Part Number 1: 445-8727-2-ND; ComponentLink1Description: Datasheet; ComponentLink1URL: https://product.tdk.com/info/en/catalog/datasheets/inductor_commercial_power_vlcf4024-2_en.pdf; ComponentLink2Description: Digi-Key Listing; ComponentLink2URL: https://www.digikey.com/product-detail/en/tdk-corporation/VLCF4024T-100MR90-2/445-8727-2-ND/3083281; Price: 0.441; Device Package: Nonstandard; Series: VLCF; Inductance: 10uH; Current Rating: 900mA; Current - Saturation: 900mA; Operating Temperature: -40C ~ 105C
footprint TDK VLCF4024-2
pins: 1, 2

## VLCF4024T-101MR30-2
designator L?
FIXED IND 100UH 300MA 1.21 OHM; Manufacturer: TDK Corporation; Type: Wirewound; Material - Core: Ferrite; Tolerance: 20%; Shielding: Shielded; DC Resistance (DCR): 1.21 Ohm Max; Value: 100uH; Part Number: VLCF4024T-101MR30-2; PartId: 16427; Supplier 1: Digi-Key; Supplier Part Number 1: 445-8728-2-ND; ComponentLink1Description: Datasheet; ComponentLink1URL: https://product.tdk.com/info/en/catalog/datasheets/inductor_commercial_power_vlcf4024-2_en.pdf; ComponentLink2Description: Digi-Key Listing; ComponentLink2URL: https://www.digikey.com/product-detail/en/tdk-corporation/VLCF4024T-101MR30-2/445-8728-2-ND/3083286; Price: 0.441; Device Package: Nonstandard; Series: VLCF; Inductance: 100uH; Current Rating: 300mA; Current - Saturation: 300mA; Operating Temperature: -40C ~ 105C
footprint TDK VLCF4024-2
pins: 1, 2

## VLCF4024T-150MR80-2
designator L?
FIXED IND 15UH 800MA 198 MOHM; Manufacturer: TDK Corporation; Type: Wirewound; Material - Core: Ferrite; Tolerance: 20%; Shielding: Shielded; DC Resistance (DCR): 198 mOhm Max; Value: 15uH; Part Number: VLCF4024T-150MR80-2; PartId: 16424; Supplier 1: Digi-Key; Supplier Part Number 1: 445-8729-2-ND; ComponentLink1Description: Datasheet; ComponentLink1URL: https://product.tdk.com/info/en/catalog/datasheets/inductor_commercial_power_vlcf4024-2_en.pdf; ComponentLink2Description: Digi-Key Listing; ComponentLink2URL: https://www.digikey.com/product-detail/en/tdk-corporation/VLCF4024T-150MR80-2/445-8729-2-ND/3083282; Price: 0.441; Device Package: Nonstandard; Series: VLCF; Inductance: 15uH; Current Rating: 800mA; Current - Saturation: 800mA; Operating Temperature: -40C ~ 105C
footprint TDK VLCF4024-2
pins: 1, 2

## VLCF4024T-220MR65-2
designator L?
FIXED IND 22UH 650MA 332 MOHM; Manufacturer: TDK Corporation; Type: Wirewound; Material - Core: Ferrite; Tolerance: 20%; Shielding: Shielded; DC Resistance (DCR): 332 mOhm Max; Value: 22uH; Part Number: VLCF4024T-220MR65-2; PartId: 16430; Supplier 1: Digi-Key; Supplier Part Number 1: 445-8732-2-ND; ComponentLink1Description: Datasheet; ComponentLink1URL: https://product.tdk.com/info/en/catalog/datasheets/inductor_commercial_power_vlcf4024-2_en.pdf; ComponentLink2Description: Digi-Key Listing; ComponentLink2URL: https://www.digikey.com/product-detail/en/tdk-corporation/VLCF4024T-220MR65-2/445-8732-2-ND/3083283; Price: 0.441; Device Package: Nonstandard; Series: VLCF; Inductance: 22uH; Current Rating: 650mA; Current - Saturation: 650mA; Operating Temperature: -40C ~ 105C
footprint TDK VLCF4024-2
pins: 1, 2

## VLCF4024T-470MR44-2
designator L?
FIXED IND 47UH 440MA 644 MOHM; Manufacturer: TDK Corporation; Type: Wirewound; Material - Core: Ferrite; Tolerance: 20%; Shielding: Shielded; DC Resistance (DCR): 644 mOhm Max; Value: 47uH; Part Number: VLCF4024T-470MR44-2; PartId: 16428; Supplier 1: Digi-Key; Supplier Part Number 1: 445-8736-2-ND; ComponentLink1Description: Datasheet; ComponentLink1URL: https://product.tdk.com/info/en/catalog/datasheets/inductor_commercial_power_vlcf4024-2_en.pdf; ComponentLink2Description: Digi-Key Listing; ComponentLink2URL: https://www.digikey.com/product-detail/en/tdk-corporation/VLCF4024T-470MR44-2/445-8736-2-ND/3083285; Price: 0.441; Device Package: Nonstandard; Series: VLCF; Inductance: 47uH; Current Rating: 440mA; Current - Saturation: 440mA; Operating Temperature: -40C ~ 105C
footprint TDK VLCF4024-2
pins: 1, 2

## VLCF4028T-1R2N2R7-2
designator L?
FIXED IND 1.2UH 2.71A 32 MOHM; Manufacturer: TDK Corporation; Type: Wirewound; Material - Core: Ferrite; Tolerance: 30%; Shielding: Shielded; DC Resistance (DCR): 32 mOhm Max; Value: 1.2uH; Part Number: VLCF4028T-1R2N2R7-2; PartId: 16417; Supplier 1: Digi-Key; Supplier Part Number 1: 445-6544-2-ND; ComponentLink1Description: Datasheet; ComponentLink1URL: https://product.tdk.com/info/en/catalog/datasheets/inductor_commercial_power_vlcf4028-2_en.pdf; ComponentLink2Description: Digi-Key Listing; ComponentLink2URL: https://www.digikey.com/product-detail/en/tdk-corporation/VLCF4028T-1R2N2R7-2/445-6544-2-ND/2465301; Price: 0.441; Device Package: Nonstandard; Series: VLCF; Inductance: 1.2uH; Current Rating: 2.71A; Current - Saturation: 2.71A; Operating Temperature: -40C ~ 105C
footprint TDK VLCF4028-2
pins: 1, 2

## VLCF4028T-1R6N2R3-2
designator L?
FIXED IND 1.6UH 2.31A 38 MOHM; Manufacturer: TDK Corporation; Type: Wirewound; Material - Core: Ferrite; Tolerance: 30%; Shielding: Shielded; DC Resistance (DCR): 38 mOhm Max; Value: 1.6uH; Part Number: VLCF4028T-1R6N2R3-2; PartId: 16422; Supplier 1: Digi-Key; Supplier Part Number 1: 445-6545-2-ND; ComponentLink1Description: Datasheet; ComponentLink1URL: https://product.tdk.com/info/en/catalog/datasheets/inductor_commercial_power_vlcf4028-2_en.pdf; ComponentLink2Description: Digi-Key Listing; ComponentLink2URL: https://www.digikey.com/product-detail/en/tdk-corporation/VLCF4028T-1R6N2R3-2/445-6545-2-ND/2465302; Price: 0.441; Device Package: Nonstandard; Series: VLCF; Inductance: 1.6uH; Current Rating: 2.31A; Current - Saturation: 2.31A; Operating Temperature: -40C ~ 105C
footprint TDK VLCF4028-2
pins: 1, 2

## VLCF4028T-2R2N1R9-2
designator L?
FIXED IND 2.2UH 1.94A 43 MOHM; Manufacturer: TDK Corporation; Type: Wirewound; Material - Core: Ferrite; Tolerance: 30%; Shielding: Shielded; DC Resistance (DCR): 43 mOhm Max; Value: 2.2uH; Part Number: VLCF4028T-2R2N1R9-2; PartId: 16420; Supplier 1: Digi-Key; Supplier Part Number 1: 445-6547-2-ND; ComponentLink1Description: Datasheet; ComponentLink1URL: https://product.tdk.com/info/en/catalog/datasheets/inductor_commercial_power_vlcf4028-2_en.pdf; ComponentLink2Description: Digi-Key Listing; ComponentLink2URL: https://www.digikey.com/product-detail/en/tdk-corporation/VLCF4028T-2R2N1R9-2/445-6547-2-ND/2465304; Price: 0.441; Device Package: Nonstandard; Series: VLCF; Inductance: 2.2uH; Current Rating: 1.94A; Current - Saturation: 1.94A; Operating Temperature: -40C ~ 105C
footprint TDK VLCF4028-2
pins: 1, 2

## VLCF4028T-4R7N1R5-2
designator L?
FIXED IND 4.7UH 1.57A 62 MOHM; Manufacturer: TDK Corporation; Type: Wirewound; Material - Core: Ferrite; Tolerance: 30%; Shielding: Shielded; DC Resistance (DCR): 62 mOhm Max; Value: 4.7uH; Part Number: VLCF4028T-4R7N1R5-2; PartId: 16413; Supplier 1: Digi-Key; Supplier Part Number 1: 445-6552-2-ND; ComponentLink1Description: Datasheet; ComponentLink1URL: https://product.tdk.com/info/en/catalog/datasheets/inductor_commercial_power_vlcf4028-2_en.pdf; ComponentLink2Description: Digi-Key Listing; ComponentLink2URL: https://www.digikey.com/product-detail/en/tdk-corporation/VLCF4028T-4R7N1R5-2/445-6552-2-ND/2465309; Price: 0.441; Device Package: Nonstandard; Series: VLCF; Inductance: 4.7uH; Current Rating: 1.57A; Current - Saturation: 1.57A; Operating Temperature: -40C ~ 105C
footprint TDK VLCF4028-2
pins: 1, 2

## VLCF4028T-6R8N1R3-2
designator L?
FIXED IND 6.8UH 1.36A 100 MOHM; Manufacturer: TDK Corporation; Type: Wirewound; Material - Core: Ferrite; Tolerance: 30%; Shielding: Shielded; DC Resistance (DCR): 100 mOhm Max; Value: 6.8uH; Part Number: VLCF4028T-6R8N1R3-2; PartId: 16419; Supplier 1: Digi-Key; Supplier Part Number 1: 445-6553-2-ND; ComponentLink1Description: Datasheet; ComponentLink1URL: https://product.tdk.com/info/en/catalog/datasheets/inductor_commercial_power_vlcf4028-2_en.pdf; ComponentLink2Description: Digi-Key Listing; ComponentLink2URL: https://www.digikey.com/product-detail/en/tdk-corporation/VLCF4028T-6R8N1R3-2/445-6553-2-ND/2465310; Price: 0.441; Device Package: Nonstandard; Series: VLCF; Inductance: 6.8uH; Current Rating: 1.36A; Current - Saturation: 1.36A; Operating Temperature: -40C ~ 105C
footprint TDK VLCF4028-2
pins: 1, 2

## VLCF4028T-100M1R0-2
designator L?
FIXED IND 10UH 1.06A 140 MOHM; Manufacturer: TDK Corporation; Type: Wirewound; Material - Core: Ferrite; Tolerance: 20%; Shielding: Shielded; DC Resistance (DCR): 140 mOhm Max; Value: 10uH; Part Number: VLCF4028T-100M1R0-2; PartId: 16412; Supplier 1: Digi-Key; Supplier Part Number 1: 445-6541-2-ND; ComponentLink1Description: Datasheet; ComponentLink1URL: https://product.tdk.com/info/en/catalog/datasheets/inductor_commercial_power_vlcf4028-2_en.pdf; ComponentLink2Description: Digi-Key Listing; ComponentLink2URL: https://www.digikey.com/product-detail/en/tdk-corporation/VLCF4028T-100M1R0-2/445-6541-2-ND/2465298; Price: 0.441; Device Package: Nonstandard; Series: VLCF; Inductance: 10uH; Current Rating: 1.06A; Current - Saturation: 1.06A; Operating Temperature: -40C ~ 105C
footprint TDK VLCF4028-2
pins: 1, 2

## VLCF4028T-101MR33-2
designator L?
FIXED IND 100UH 330MA 1 OHM SMD; Manufacturer: TDK Corporation; Type: Wirewound; Material - Core: Ferrite; Tolerance: 20%; Shielding: Shielded; DC Resistance (DCR): 1 Ohm Max; Value: 100uH; Part Number: VLCF4028T-101MR33-2; PartId: 16421; Supplier 1: Digi-Key; Supplier Part Number 1: 445-6542-2-ND; ComponentLink1Description: Datasheet; ComponentLink1URL: https://product.tdk.com/info/en/catalog/datasheets/inductor_commercial_power_vlcf4028-2_en.pdf; ComponentLink2Description: Digi-Key Listing; ComponentLink2URL: https://www.digikey.com/product-detail/en/tdk-corporation/VLCF4028T-101MR33-2/445-6542-2-ND/2465299; Price: 0.441; Device Package: Nonstandard; Series: VLCF; Inductance: 100uH; Current Rating: 330mA; Current - Saturation: 330mA; Operating Temperature: -40C ~ 105C
footprint TDK VLCF4028-2
pins: 1, 2

## VLCF4028T-150MR88-2
designator L?
FIXED IND 15UH 880MA 170 MOHM; Manufacturer: TDK Corporation; Type: Wirewound; Material - Core: Ferrite; Tolerance: 20%; Shielding: Shielded; DC Resistance (DCR): 170 mOhm Max; Value: 15uH; Part Number: VLCF4028T-150MR88-2; PartId: 16418; Supplier 1: Digi-Key; Supplier Part Number 1: 445-6543-2-ND; ComponentLink1Description: Datasheet; ComponentLink1URL: https://product.tdk.com/info/en/catalog/datasheets/inductor_commercial_power_vlcf4028-2_en.pdf; ComponentLink2Description: Digi-Key Listing; ComponentLink2URL: https://www.digikey.com/product-detail/en/tdk-corporation/VLCF4028T-150MR88-2/445-6543-2-ND/2465300; Price: 0.441; Device Package: Nonstandard; Series: VLCF; Inductance: 15uH; Current Rating: 880mA; Current - Saturation: 880mA; Operating Temperature: -40C ~ 105C
footprint TDK VLCF4028-2
pins: 1, 2

## VLCF4028T-220MR72-2
designator L?
FIXED IND 22UH 720MA 240 MOHM; Manufacturer: TDK Corporation; Type: Wirewound; Material - Core: Ferrite; Tolerance: 20%; Shielding: Shielded; DC Resistance (DCR): 240 mOhm Max; Value: 22uH; Part Number: VLCF4028T-220MR72-2; PartId: 16414; Supplier 1: Digi-Key; Supplier Part Number 1: 445-6546-2-ND; ComponentLink1Description: Datasheet; ComponentLink1URL: https://product.tdk.com/info/en/catalog/datasheets/inductor_commercial_power_vlcf4028-2_en.pdf; ComponentLink2Description: Digi-Key Listing; ComponentLink2URL: https://www.digikey.com/product-detail/en/tdk-corporation/VLCF4028T-220MR72-2/445-6546-2-ND/2465303; Price: 0.441; Device Package: Nonstandard; Series: VLCF; Inductance: 22uH; Current Rating: 720mA; Current - Saturation: 720mA; Operating Temperature: -40C ~ 105C
footprint TDK VLCF4028-2
pins: 1, 2

## VLCF4028T-330MR61-2
designator L?
FIXED IND 33UH 610MA 350 MOHM; Manufacturer: TDK Corporation; Type: Wirewound; Material - Core: Ferrite; Tolerance: 20%; Shielding: Shielded; DC Resistance (DCR): 350 mOhm Max; Value: 33uH; Part Number: VLCF4028T-330MR61-2; PartId: 16423; Supplier 1: Digi-Key; Supplier Part Number 1: 445-6549-2-ND; ComponentLink1Description: Datasheet; ComponentLink1URL: https://product.tdk.com/info/en/catalog/datasheets/inductor_commercial_power_vlcf4028-2_en.pdf; ComponentLink2Description: Digi-Key Listing; ComponentLink2URL: https://www.digikey.com/product-detail/en/tdk-corporation/VLCF4028T-330MR61-2/445-6549-2-ND/2465306; Price: 0.441; Device Package: Nonstandard; Series: VLCF; Inductance: 33uH; Current Rating: 610mA; Current - Saturation: 610mA; Operating Temperature: -40C ~ 105C
footprint TDK VLCF4028-2
pins: 1, 2